# EAGLE library part TFP410PAP (library SamacSys_Parts)
165-MHz TMDS DVI transmitter/serializer & Panelbus integrated circuit Source: Datasheet <http://www.ti.com/lit/ds/symlink/tfp410.pdf>
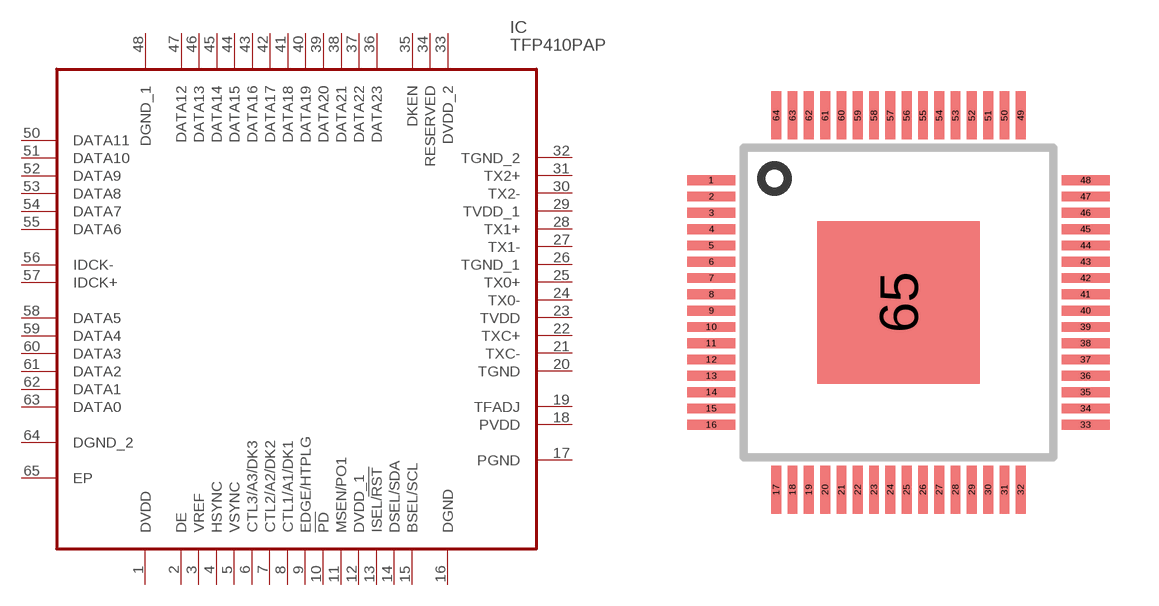
[diagram p2: symbol with the pads of QFP50P1200X1200X120-65N; footprint QFP50P1200X1200X120-65N]

Designator prefix IC

## TFP410PAP (DESCRIPTION: 165-MHz TMDS DVI transmitter/serializer & Panelbus integrated circuit; HEIGHT: 1.2mm; MANUFACTURER_NAME: Texas Instruments; MANUFACTURER_PART_NUMBER: TFP410PAP; MOUSER_PART_NUMBER: 595-TFP410PAP; MOUSER_PRICE-STOCK: https://www.mouser.com/Search/Refine.aspx?Keyword=595-TFP410PAP)  [QFP50P1200X1200X120-65N]
1  DVDD  pwr
2  DE
3  VREF  in
4  HSYNC
5  VSYNC
6  CTL3/A3/DK3
7  CTL2/A2/DK2
8  CTL1/A1/DK1
9  EDGE/HTPLG
10  !PD
11  MSEN/PO1
12  DVDD_1  pwr
13  ISEL/!RST  in
14  DSEL/SDA
15  BSEL/SCL
16  DGND  pwr
17  PGND  pwr
18  PVDD  pwr
19  TFADJ
20  TGND  pwr
21  TXC-
22  TXC+
23  TVDD  pwr
24  TX0-
25  TX0+
26  TGND_1  pwr
27  TX1-
28  TX1+
29  TVDD_1  pwr
30  TX2-
31  TX2+
32  TGND_2  pwr
33  DVDD_2  pwr
34  RESERVED
35  DKEN
36  DATA23
37  DATA22
38  DATA21
39  DATA20
40  DATA19
41  DATA18
42  DATA17
43  DATA16
44  DATA15
45  DATA14
46  DATA13
47  DATA12
48  DGND_1  pwr
50  DATA11
51  DATA10
52  DATA9
53  DATA8
54  DATA7
55  DATA6
56  IDCK-
57  IDCK+
58  DATA5
59  DATA4
60  DATA3
61  DATA2
62  DATA1
63  DATA0
64  DGND_2  pwr
65  EP

## Footprint QFP50P1200X1200X120-65N (pad centres in mm)
PAP (S-PQFP-G64)
smd 1.475 x 0.3: 1 -5.738,3.75; 2 -5.738,3.25; 3 -5.738,2.75; 4 -5.738,2.25; 5 -5.738,1.75; 6 -5.738,1.25; 7 -5.738,0.75; 8 -5.738,0.25; 9 -5.738,-0.25; 10 -5.738,-0.75; 11 -5.738,-1.25; 12 -5.738,-1.75; 13 -5.738,-2.25; 14 -5.738,-2.75; 15 -5.738,-3.25; 16 -5.738,-3.75; 33 5.738,-3.75; 34 5.738,-3.25; 35 5.738,-2.75; 36 5.738,-2.25; 37 5.738,-1.75; 38 5.738,-1.25; 39 5.738,-0.75; 40 5.738,-0.25; 41 5.738,0.25; 42 5.738,0.75; 43 5.738,1.25; 44 5.738,1.75; 45 5.738,2.25; 46 5.738,2.75; 47 5.738,3.25; 48 5.738,3.75
smd 0.3 x 1.475: 17 -3.75,-5.738; 18 -3.25,-5.738; 19 -2.75,-5.738; 20 -2.25,-5.738; 21 -1.75,-5.738; 22 -1.25,-5.738; 23 -0.75,-5.738; 24 -0.25,-5.738; 25 0.25,-5.738; 26 0.75,-5.738; 27 1.25,-5.738; 28 1.75,-5.738; 29 2.25,-5.738; 30 2.75,-5.738; 31 3.25,-5.738; 32 3.75,-5.738; 49 3.75,5.738; 50 3.25,5.738; 51 2.75,5.738; 52 2.25,5.738; 53 1.75,5.738; 54 1.25,5.738; 55 0.75,5.738; 56 0.25,5.738; 57 -0.25,5.738; 58 -0.75,5.738; 59 -1.25,5.738; 60 -1.75,5.738; 61 -2.25,5.738; 62 -2.75,5.738; 63 -3.25,5.738; 64 -3.75,5.738
smd 5 x 5: 65 0,0